# Altium footprint library MSOP.PcbLib: 1 footprints
Each footprint in its own frame and in the unit in brackets; x right, y up, seen from the top. Pads: shape width x height; smd on the part's side, far side on the other; paste and mask are expansions set on the pad; w line width, h text height; cw(c..) or ccw(c..) is an arc to the next point about the centre after c.
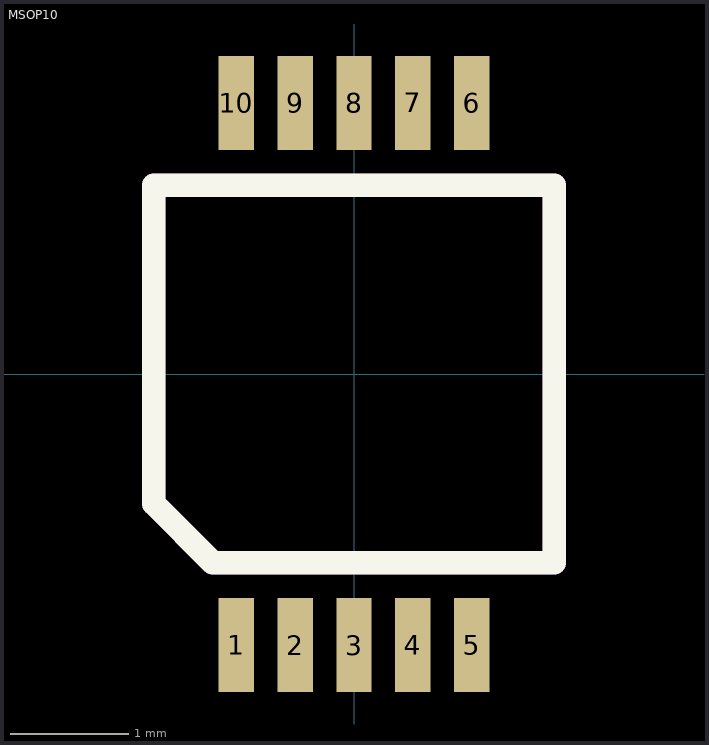
[diagram p0: the footprint, top view; thin cyan lines are the x and y axes]

## MSOP10 [mm]
pads (10):
  rect 0.3x0.8 smd: 1(-1,-2.3) 2(-0.5,-2.3) 3(0,-2.3) 4(0.5,-2.3) 5(1,-2.3) 6(1,2.3) 7(0.5,2.3) 8(0,2.3) 9(-0.5,2.3) 10(-1,2.3)
Top Overlay:
  lines w0.2: -1.7,-1.1 -1.2,-1.6 1.7,-1.6 1.7,1.6 -1.7,1.6 -1.7,-1.1
TopAssy:
  lines w0.2: -1.7,-1.1 -1.7,1.6 1.7,1.6 1.7,-1.6 -1.2,-1.6 -1.7,-1.1
  text ".Designator" at -0.8,-0.2 h1.52
3D body "MSOP10-1.step": height 1.09, standoff 0, extent -1.6,-2.575 1.6,2.575